# EAGLE library part HIP4081_H-BRIDGE (library StevenV1)
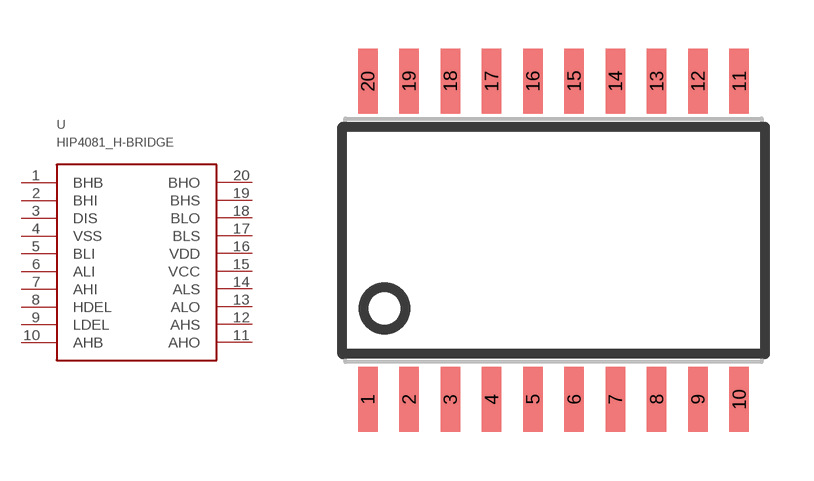
[diagram p2: symbol with the pads of SOIC20; footprint SOIC20]

Designator prefix U

## HIP4081_H-BRIDGE  [SOIC20]
1  BHB
2  BHI
3  DIS
4  VSS
5  BLI
6  ALI
7  AHI
8  HDEL
9  LDEL
10  AHB
11  AHO
12  AHS
13  ALO
14  ALS
15  VCC
16  VDD
17  BLS
18  BLO
19  BHS
20  BHO

## Footprint SOIC20 (pad centres in mm)
Description: SOIC20 footprint custom made for the hip4081a H-Bridge used for the WID arm.
smd 0.6 x 2: 1 -5.715,-4.9; 2 -4.445,-4.9; 3 -3.175,-4.9; 4 -1.905,-4.9; 5 -0.635,-4.9; 6 0.635,-4.9; 7 1.905,-4.9; 8 3.175,-4.9; 9 4.445,-4.9; 10 5.715,-4.9; 11 5.715,4.9; 12 4.445,4.9; 13 3.175,4.9; 14 1.905,4.9; 15 0.635,4.9; 16 -0.635,4.9; 17 -1.905,4.9; 18 -3.175,4.9; 19 -4.445,4.9; 20 -5.715,4.9